# EAGLE library part WIRL-POSI_2613021137000 (library WE_WIRL_Rev13.0)
Elara-II GNSS Module - GPS and GLONASS. WIRL-POSI GNSS Module - Integrated patch antenna Details see: https://we-online.de/katalog/en/article/2613011137000/
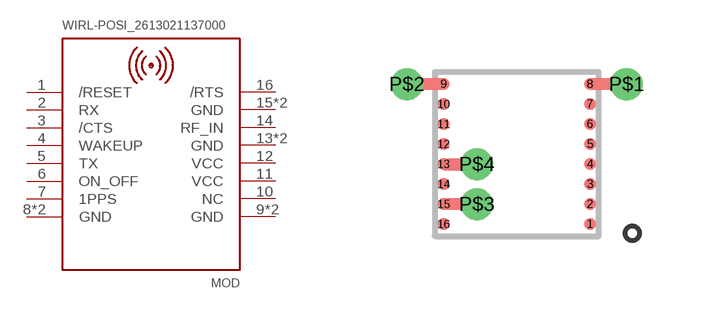
[diagram p28: symbol with the pads of WIRL-POSI_2613021137000; footprint WIRL-POSI_2613021137000]

Designator prefix MOD

## WIRL-POSI_2613021137000 (HEIGHT: 2.2mm; MANUFACTURER: Würth Elektronik; NR: 2613021137000)  [WIRL-POSI_2613021137000]
1  /RESET
2  RX
3  /CTS
4  WAKEUP
5  TX
6  ON_OFF
7  1PPS
8  GND
9  GND
10  NC
11  VCC
12  VCC
13  GND
14  RF_IN
15  GND
16  /RTS
P$1  GND
P$2  GND
P$3  GND
P$4  GND

## Footprint WIRL-POSI_2613021137000 (pad centres in mm)
Elara-II GNSS Module - GPS and GLONASS. WIRL-POSI GNSS Module - Integrated patch antenna
smd 0.3 x 0.3: 1 1.83,-1.75; 2 1.83,-1.25; 3 1.83,-0.75; 4 1.83,-0.25; 5 1.83,0.25; 6 1.83,0.75; 7 1.83,1.25; 8 1.83,1.75; 9 -1.83,1.75; 10 -1.83,1.25; 11 -1.83,0.75; 12 -1.83,0.25; 13 -1.83,-0.25; 14 -1.83,-0.75; 15 -1.83,-1.25; 16 -1.83,-1.75
drill 0.3 pad 0.61: P$1 2.75,1.75; P$2 -2.75,1.75; P$3 -1,-1.25; P$4 -1,-0.25